# Altium footprint library QFN贴片芯片.PcbLib: 10 footprints
Each footprint in its own frame and in the unit in brackets; x right, y up, seen from the top. Pads: shape width x height; smd on the part's side, far side on the other; paste and mask are expansions set on the pad; w line width, h text height; cw(c..) or ccw(c..) is an arc to the next point about the centre after c.
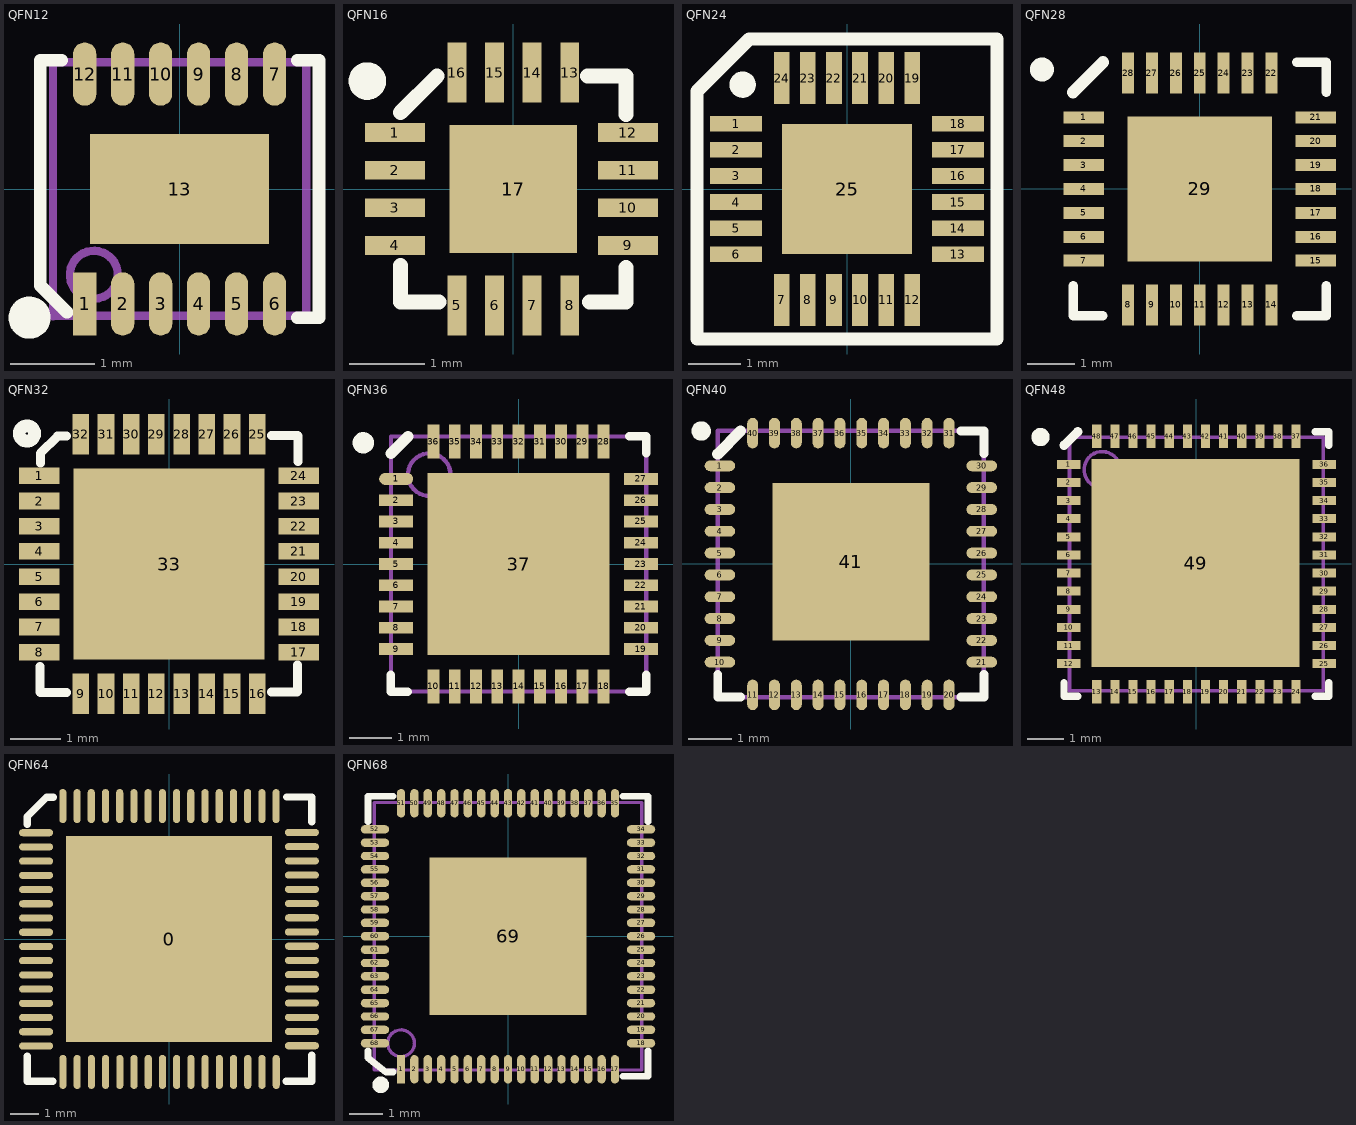
[diagram p0: the footprints below, top view; thin cyan lines are the x and y axes]

## QFN12 [mm] "3mm*3mm(蒜米工坊）"
pads (13):
  rect 0.275x0.75 smd: 1(-1.125,-1.362)
  oval 0.275x0.75 smd: 2(-0.675,-1.362) 3(-0.225,-1.362) 4(0.225,-1.362) 5(0.675,-1.362) 6(1.125,-1.362) 7(1.125,1.362) 8(0.675,1.362) 9(0.225,1.362) 10(-0.225,1.362) 11(-0.675,1.362) 12(-1.125,1.362)
  rect 2.12x1.3 smd: 13(0,0)
Top Overlay:
  circle w0.25: c-1.778,-1.524 r0.125
  lines w0.15: -1.397,1.524 -1.651,1.524 -1.651,-1.143 -1.333,-1.46 ; 1.397,-1.524 1.651,-1.524 1.651,1.524 1.397,1.524
Mechanical 13:
  circle w0.1: c-1.016,-1.016 r0.284
  lines w0.1: 1.5,-1.5 1.5,1.5 ; 1.5,-1.5 1.5,-1.5 ; 1.5,-1.5 -1.49,-1.5 -1.5,-1.51 -1.5,1.5 1.5,1.5 ; 1.5,1.5 1.5,1.5
Mechanical 15:
  circle w0.05: c0,0 r0.35
  lines w0.05: -0.5,0 0.5,0 ; 0,-0.5 0,0.5
3D body "QFN12_3x3.STEP": height 0.63, standoff 0, extent -1.475,-1.501 1.526,1.501

## QFN16 [mm] "3mm*3mm（蒜米工坊）"
height 3
pads (17):
  rect 0.8x0.25 smd: 1(-1.575,0.75) 2(-1.575,0.25) 3(-1.575,-0.25) 4(-1.575,-0.75) 9(1.524,-0.75) 10(1.524,-0.25) 11(1.524,0.25) 12(1.524,0.75)
  rect 0.25x0.8 smd: 5(-0.75,-1.55) 6(-0.25,-1.55) 7(0.25,-1.55) 8(0.75,-1.55) 13(0.75,1.55) 14(0.25,1.55) 15(-0.25,1.55) 16(-0.75,1.55)
  rect 1.7x1.7 smd: 17(0,0)
Top Overlay:
  circle w0.25: c-1.941,1.436 r0.125
  lines w0.2: -1.5,-1.015 -1.5,-1.5 -0.989,-1.5 ; -1.5,1.016 -1.016,1.5 ; 0.989,1.5 1.5,1.5 1.5,0.989 ; 1.016,-1.5 1.5,-1.5 1.5,-1.041
3D body "QFN-16_3x3.STEP": height 0.9, standoff 0, extent -1.549,-1.521 1.493,1.521

## QFN24 [mm] "4mm*4mm（蒜米工坊）"
pads (25):
  rect 1x0.3 smd: 1(-2.125,1.25) 2(-2.125,0.75) 3(-2.125,0.25) 4(-2.125,-0.25) 5(-2.125,-0.75) 6(-2.125,-1.25) 13(2.125,-1.25) 14(2.125,-0.75) 15(2.125,-0.25) 16(2.125,0.25) 17(2.125,0.75) 18(2.125,1.25)
  rect 0.3x1 smd: 7(-1.25,-2.125) 8(-0.75,-2.125) 9(-0.25,-2.125) 10(0.25,-2.125) 11(0.75,-2.125) 12(1.25,-2.125) 19(1.25,2.125) 20(0.75,2.125) 21(0.25,2.125) 22(-0.25,2.125) 23(-0.75,2.125) 24(-1.25,2.125)
  rect 2.5x2.5 smd: 25(0,0)
Top Overlay:
  circle w0.254: c-2,2 r0.125
  lines w0.254: -2.875,-2.875 2.875,-2.875 2.875,2.875 -1.25,2.875 -1.875,2.875 -2.875,1.875 -2.875,1.25 -2.875,-2.875
3D body "QFN_24_4x4.STEP": height 0.9, standoff 0, extent -2.002,-2.002 2.002,2.002

## QFN28 [mm] "5mm*5mm（蒜米工坊）"
height 0.9
pads (29):
  rect 0.85x0.25 smd: 1(-2.425,1.5) 2(-2.425,1) 3(-2.425,0.5) 4(-2.425,0) 5(-2.425,-0.5) 6(-2.425,-1) 7(-2.425,-1.5) 15(2.425,-1.5) 16(2.425,-1) 17(2.425,-0.5) 18(2.425,0) 19(2.425,0.5) 20(2.425,1) 21(2.425,1.5)
  rect 0.25x0.85 smd: 8(-1.5,-2.425) 9(-1,-2.425) 10(-0.5,-2.425) 11(0,-2.425) 12(0.5,-2.425) 13(1,-2.425) 14(1.5,-2.425) 22(1.5,2.425) 23(1,2.425) 24(0.5,2.425) 25(0,2.425) 26(-0.5,2.425) 27(-1,2.425) 28(-1.5,2.425)
  rect 3.03x3.03 smd: 29(0,0)
Top Overlay:
  circle w0.25: c-3.3,2.5 r0.125
  lines w0.2: -2.65,-2.025 -2.65,-2.65 -2.025,-2.65 ; 2.025,-2.65 2.65,-2.65 2.65,-2.025 ; 2.025,2.65 2.65,2.65 2.65,2.025
  lines w0.254: -2.65,2.025 -2.025,2.65
Mechanical 15:
  lines w0.1: -0.5,0 0.5,0 ; 0,-0.5 0,0.5
3D body "QFN28.STEP": height 0.9, standoff 0, extent -2.495,-2.52 2.545,2.52

## QFN32 [mil] "5mm*5mm（蒜米工坊）"
pads (33):
  rect 31.5x13 smd: 1(-101.5,68.92) 2(-101.5,49.23) 3(-101.5,29.54) 4(-101.5,9.85) 5(-101.5,-9.85) 6(-101.5,-29.54) 7(-101.5,-49.23) 8(-101.5,-68.92) 17(101.5,-68.92) 18(101.5,-49.23) 19(101.5,-29.54) 20(101.5,-9.85) 21(101.5,9.85) 22(101.5,29.54) 23(101.5,49.23) 24(101.5,68.92)
  rect 13x31.5 smd: 9(-68.92,-101.5) 10(-49.23,-101.5) 11(-29.54,-101.5) 12(-9.85,-101.5) 13(9.85,-101.5) 14(29.54,-101.5) 15(49.23,-101.5) 16(68.92,-101.5) 25(68.92,101.5) 26(49.23,101.5) 27(29.54,101.5) 28(9.85,101.5) 29(-9.85,101.5) 30(-29.54,101.5) 31(-49.23,101.5) 32(-68.92,101.5)
  rect 149.61x149.61 smd: 33(0,0)
Top Overlay:
  circle w10: c-111,102 r6
  lines w7: -101,-80 -101,-100 -100.5,-100.5 -80,-100.5 ; -100.5,79 -100.5,86.5 -87,100 -80,100 ; 80,-100 100,-100 100.5,-99.5 100.5,-79 ; 80,100.5 100.5,100.5 101,100 101,80
3D body "qfn32-5x5.STEP": height 31.5, standoff 0, extent -98.2,-97.82 99.44,99.82

## QFN36 [mm] "6mm*6mm"
height 1
pads (37):
  oval 0.8x0.28 smd: 1(-2.879,2)
  rect 0.8x0.28 smd: 2(-2.879,1.5) 3(-2.879,1) 4(-2.879,0.5) 5(-2.879,0) 6(-2.879,-0.5) 7(-2.879,-1) 8(-2.879,-1.5) 9(-2.879,-2) 19(2.879,-2) 20(2.879,-1.5) 21(2.879,-1) 22(2.879,-0.5) 23(2.879,0) 24(2.879,0.5) 25(2.879,1) 26(2.879,1.5) 27(2.879,2)
  rect 0.28x0.8 smd: 10(-2,-2.879) 11(-1.5,-2.879) 12(-1,-2.879) 13(-0.5,-2.879) 14(0,-2.879) 15(0.5,-2.879) 16(1,-2.879) 17(1.5,-2.879) 18(2,-2.879) 28(2,2.879) 29(1.5,2.879) 30(1,2.879) 31(0.5,2.879) 32(0,2.879) 33(-0.5,2.879) 34(-1,2.879) 35(-1.5,2.879) 36(-2,2.879)
  rect 4.28x4.28 smd: 37(0,0)
Top Overlay:
  circle w0.25: c-3.65,2.85 r0.125
  lines w0.2: -3,-2.6 -3,-3 -2.6,-3 ; 2.6,-3 3,-3 3,-2.6 ; 2.6,3 3,3 3,2.6
  lines w0.254: -3,2.6 -2.6,3
Mechanical 13:
  circle w0.1: c-2.1,2.1 r0.5
  lines w0.1: -3,-3 3,-3 3,3 -3,3 -3,-3
3D body "QFN36 6x6.STEP": height 0.9, standoff 0.01, extent -3.077,-3.103 3.128,3.102

## QFN40 [mm] "6mm*6mm（蒜米工坊）"
height 1
pads (41):
  oval 0.7x0.25 smd: 1(-3,2.25) 2(-3,1.75) 3(-3,1.25) 4(-3,0.75) 5(-3,0.25) 6(-3,-0.25) 7(-3,-0.75) 8(-3,-1.25) 9(-3,-1.75) 10(-3,-2.25) 21(3,-2.25) 22(3,-1.75) 23(3,-1.25) 24(3,-0.75) 25(3,-0.25) 26(3,0.25) 27(3,0.75) 28(3,1.25) 29(3,1.75) 30(3,2.25)
  oval 0.25x0.7 smd: 11(-2.25,-3) 12(-1.75,-3) 13(-1.25,-3) 14(-0.75,-3) 15(-0.25,-3) 16(0.25,-3) 17(0.75,-3) 18(1.25,-3) 19(1.75,-3) 20(2.25,-3) 31(2.25,3) 32(1.75,3) 33(1.25,3) 34(0.75,3) 35(0.25,3) 36(-0.25,3) 37(-0.75,3) 38(-1.25,3) 39(-1.75,3) 40(-2.25,3)
  rect 3.6x3.6 smd: 41(0,0.051)
Top Overlay:
  circle w0.25: c-3.429,3.048 r0.097
  lines w0.2: -3.05,-2.525 -3.05,-3.05 -2.525,-3.05 ; 2.525,-3.05 3.05,-3.05 3.05,-2.525 ; 2.525,3.05 3.05,3.05 3.05,2.525
  lines w0.254: -3.05,2.525 -2.525,3.05
Mechanical 13:
  lines w0.1: -3.05,-3.05 -3.05,3.05 3.05,3.05 3.05,-3.05 -3.05,-3.05
3D body "QFN40-6x6.STEP": height 0.9, standoff 0, extent -2.997,-3 3.003,3

## QFN48 [mm] "7mm*7mm（蒜米工坊）"
height 1
pads (49):
  rect 0.65x0.25 smd: 1(-3.525,2.75) 2(-3.525,2.25) 3(-3.525,1.75) 4(-3.525,1.25) 5(-3.525,0.75) 6(-3.525,0.25) 7(-3.525,-0.25) 8(-3.525,-0.75) 9(-3.525,-1.25) 10(-3.525,-1.75) 11(-3.525,-2.25) 12(-3.525,-2.75) 25(3.525,-2.75) 26(3.525,-2.25) 27(3.525,-1.75) 28(3.525,-1.25) 29(3.525,-0.75) 30(3.525,-0.25) 31(3.525,0.25) 32(3.525,0.75) 33(3.525,1.25) 34(3.525,1.75) 35(3.525,2.25) 36(3.525,2.75)
  rect 0.25x0.65 smd: 13(-2.75,-3.525) 14(-2.25,-3.525) 15(-1.75,-3.525) 16(-1.25,-3.525) 17(-0.75,-3.525) 18(-0.25,-3.525) 19(0.25,-3.525) 20(0.75,-3.525) 21(1.25,-3.525) 22(1.75,-3.525) 23(2.25,-3.525) 24(2.75,-3.525) 37(2.75,3.525) 38(2.25,3.525) 39(1.75,3.525) 40(1.25,3.525) 41(0.75,3.525) 42(0.25,3.525) 43(-0.25,3.525) 44(-0.75,3.525) 45(-1.25,3.525) 46(-1.75,3.525) 47(-2.25,3.525) 48(-2.75,3.525)
  rect 5.73x5.73 smd: 49(-0.025,0.025)
Top Overlay:
  circle w0.25: c-4.3,3.5 r0.125
  lines w0.2: -3.65,-3.275 -3.65,-3.65 -3.275,-3.65 ; 3.275,-3.65 3.65,-3.65 3.65,-3.275 ; 3.275,3.65 3.65,3.65 3.65,3.275
  lines w0.254: -3.65,3.275 -3.275,3.65
Mechanical 13:
  circle w0.1: c-2.6,2.6 r0.5
  lines w0.1: -3.5,-3.5 3.5,-3.5 3.5,3.5 -3.5,3.5 -3.5,-3.5
3D body: height 1, standoff 0.08, extent -3.454,-3.571 3.546,3.429
3D body "QFN48 7x7.STEP": height 0.78, standoff -0.02, extent -3.505,-3.505 3.515,3.515

## QFN64 [mm] "9mm*9mm（蒜米工坊）"
pads (65):
  rect 7.25x7.25 smd: 0(0,-0.001)
  oval 1.2x0.25 smd: 1(-4.674,3.738) 2(-4.674,3.238) 3(-4.674,2.738) 4(-4.674,2.238) 5(-4.674,1.738) 6(-4.674,1.238) 7(-4.674,0.738) 8(-4.674,0.238) 9(-4.674,-0.262) 10(-4.674,-0.762) 11(-4.674,-1.262) 12(-4.674,-1.762) 13(-4.674,-2.262) 14(-4.674,-2.762) 15(-4.674,-3.262) 16(-4.674,-3.762) 33(4.674,-3.754) 34(4.674,-3.254) 35(4.674,-2.754) 36(4.674,-2.254) 37(4.674,-1.754) 38(4.674,-1.254) 39(4.674,-0.754) 40(4.674,-0.254) 41(4.674,0.246) 42(4.674,0.746) 43(4.674,1.246) 44(4.674,1.746) 45(4.674,2.246) 46(4.674,2.746) 47(4.674,3.246) 48(4.674,3.746)
  oval 0.25x1.2 smd: 17(-3.73,-4.675) 18(-3.23,-4.675) 19(-2.73,-4.675) 20(-2.23,-4.675) 21(-1.73,-4.675) 22(-1.23,-4.675) 23(-0.73,-4.675) 24(-0.23,-4.675) 25(0.27,-4.675) 26(0.77,-4.675) 27(1.27,-4.675) 28(1.77,-4.675) 29(2.27,-4.675) 30(2.77,-4.675) 31(3.27,-4.675) 32(3.77,-4.675) 49(3.767,4.675) 50(3.267,4.675) 51(2.767,4.675) 52(2.267,4.675) 53(1.767,4.675) 54(1.267,4.675) 55(0.767,4.675) 56(0.267,4.675) 57(-0.233,4.675) 58(-0.733,4.675) 59(-1.233,4.675) 60(-1.733,4.675) 61(-2.233,4.675) 62(-2.733,4.675) 63(-3.233,4.675) 64(-3.733,4.675)
Top Overlay:
  lines w0.254: -4.983,-4.116 -4.983,-5.004 -4.089,-5.004 ; -4.983,4.032 -4.983,4.312 -4.31,4.985 -4.064,4.985 ; 4.115,-5.004 5.017,-5.004 5.017,-4.091 ; 4.14,4.995 5.017,4.996 5.017,4.113
3D body "User_Library-QFN64-2.STEP": height 0.9, standoff 0, extent -4.468,-4.52 4.572,4.52

## QFN68 [mm] "8mm*8mm（蒜米工坊）"
pads (69):
  rect 0.25x0.85 smd: 1(-3.2,-3.981)
  oval 0.25x0.85 smd: 2(-2.8,-3.981) 3(-2.4,-3.981) 4(-2,-3.981) 5(-1.6,-3.981) 6(-1.2,-3.981) 7(-0.8,-3.981) 8(-0.4,-3.981) 9(0,-3.981) 10(0.4,-3.981) 11(0.8,-3.981) 12(1.2,-3.981) 13(1.6,-3.981) 14(2,-3.981) 15(2.4,-3.981) 16(2.8,-3.981) 17(3.2,-3.981) 35(3.2,3.981) 36(2.8,3.981) 37(2.4,3.981) 38(2,3.981) 39(1.6,3.981) 40(1.2,3.981) 41(0.8,3.981) 42(0.4,3.981) 43(0,3.981) 44(-0.4,3.981) 45(-0.8,3.981) 46(-1.2,3.981) 47(-1.6,3.981) 48(-2,3.981) 49(-2.4,3.981) 50(-2.8,3.981) 51(-3.2,3.981)
  oval 0.85x0.25 smd: 18(3.981,-3.2) 19(3.981,-2.8) 20(3.981,-2.4) 21(3.981,-2) 22(3.981,-1.6) 23(3.981,-1.2) 24(3.981,-0.8) 25(3.981,-0.4) 26(3.981,0) 27(3.981,0.4) 28(3.981,0.8) 29(3.981,1.2) 30(3.981,1.6) 31(3.981,2) 32(3.981,2.4) 33(3.981,2.8) 34(3.981,3.2) 52(-3.981,3.2) 53(-3.981,2.8) 54(-3.981,2.4) 55(-3.981,2) 56(-3.981,1.6) 57(-3.981,1.2) 58(-3.981,0.8) 59(-3.981,0.4) 60(-3.981,0) 61(-3.981,-0.4) 62(-3.981,-0.8) 63(-3.981,-1.2) 64(-3.981,-1.6) 65(-3.981,-2) 66(-3.981,-2.4) 67(-3.981,-2.8) 68(-3.981,-3.2)
  rect 4.7x4.7 smd: 69(0,0)
Top Overlay:
  circle w0.25: c-3.81,-4.445 r0.125
  lines w0.2: -4.191,-3.429 -4.191,-3.632 -3.651,-4.064 -3.429,-4.064 ; -4.191,3.429 -4.191,4.191 -3.429,4.191 ; 3.429,-4.191 4.191,-4.191 4.191,-3.429 ; 3.429,4.191 4.191,4.191 4.191,3.429
Mechanical 13:
  circle w0.1: c-3.2,-3.2 r0.4
  lines w0.1: -4,-4 -4,4.001 4,4.001 4,-4 -4,-4
Mechanical 15:
  circle w0.05: c0,0 r0.35
  lines w0.05: -0.5,0 0.5,0 ; 0,-0.5 0,0.5
3D body "QFN68_8x8.STEP": height 0.88, standoff 0, extent -4.001,-4.001 4.001,4.001